# EAGLE library part MC33269D-3.3GOS-ND (library john_mamish_regulator_library)
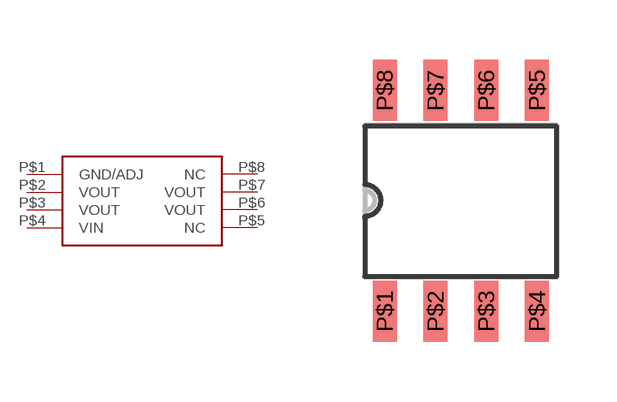
[diagram p0: symbol with the pads of ON_SEMICONDUCTOR_MC33269; footprint ON_SEMICONDUCTOR_MC33269]

Designator prefix -

## MC33269D-3.3GOS-ND  [ON_SEMICONDUCTOR_MC33269]
P$1  GND/ADJ
P$2  VOUT
P$3  VOUT
P$4  VIN
P$5  NC
P$6  VOUT
P$7  VOUT
P$8  NC

## Footprint ON_SEMICONDUCTOR_MC33269 (pad centres in mm)
smd 0.6 x 1.52: P$1 0,-5.52; P$2 1.27,-5.52; P$3 2.54,-5.52; P$4 3.81,-5.52; P$5 3.81,0; P$6 2.54,0; P$7 1.27,0; P$8 0,0